# Altium footprint library CNC_shield_mkr1000_PcbLib.PcbLib: 7 footprints
Each footprint in its own frame and in the unit in brackets; x right, y up, seen from the top. Pads: shape width x height; smd on the part's side, far side on the other; paste and mask are expansions set on the pad; w line width, h text height; cw(c..) or ccw(c..) is an arc to the next point about the centre after c.
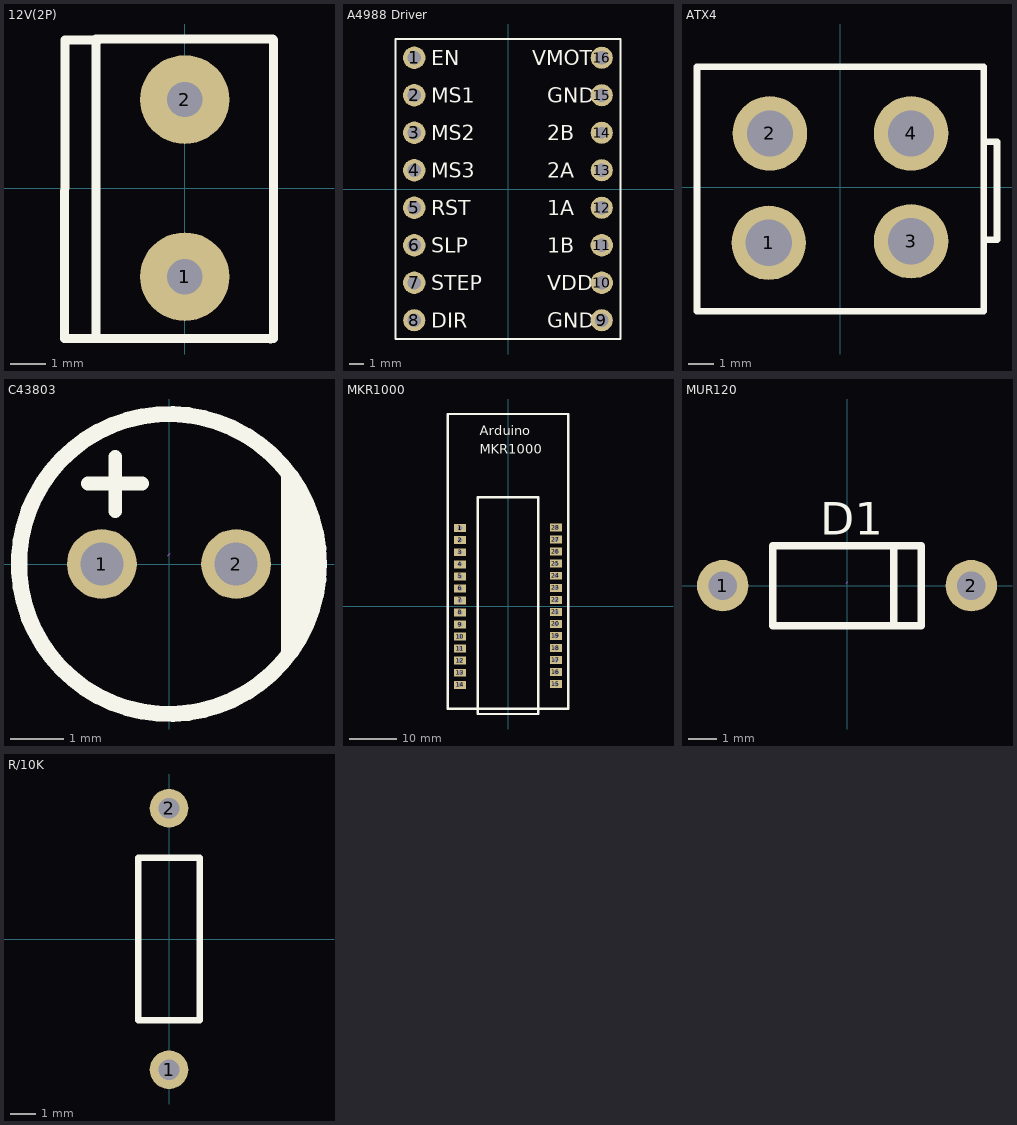
[diagram p0: the footprints below, top view; thin cyan lines are the x and y axes]

## 12V(2P) [mm] "Power plug"
pads (3):
  oval 2.52x2.5 hole 1: 1(0,-2.501) 1(0,-2.501) 2(0,2.501)
Top Overlay:
  lines w0.254: -2.49,4.179 -2.46,4.209 -2.41,4.209 -2.44,4.179 -3.38,4.179 -3.4,-4.251 -2.46,-4.251 ; 1.75,-4.251 2.42,-4.261 2.51,-4.241 2.51,4.18 2.479,4.21 -2.51,4.21 -2.51,-4.251 2.34,-4.251

## A4988 Driver [mil]
pads (16):
  round 60 hole 36: 1(-250,350) 2(-250,250) 3(-250,150) 4(-250,50) 5(-250,-50) 6(-250,-150) 7(-250,-250) 10(250,-250) 11(250,-150)
  round 59.05 hole 36: 8(-250,-350) 9(250,-350) 12(250,-50) 13(250,50) 15(250,250) 16(250,350)
  round 59.05 hole 31.5: 14(250,150)
Top Overlay:
  lines w5: -300,-400 -300,400 300,400 300,-400 -300,-400
  text "SLP" at -205,-170 h40
  text "RST" at -205,-70 h40
  text "EN" at -205,330 h40
  text "VMOT" at 65,330 h40
  text "GND" at 105,230 h40
  text "2B" at 105,130 h40
  text "2A" at 105,30 h40
  text "1A" at 105,-70 h40
  text "1B" at 105,-170 h40
  text "VDD" at 105,-270 h40
  text "GND" at 105,-370 h40
  text "DIR" at -205,-370 h40
  text "STEP" at -205,-270 h40
  text "MS3" at -205,30 h40
  text "MS2" at -205,130 h40
  text "MS1" at -205,230 h40

## ATX4 [mil]
pads (4):
  round 114.21 hole 70.79: 1(-110,-85) 2(-108.25,82.7) 3(108.25,-82.7) 4(108.25,82.7)
Top Overlay:
  lines w10: 220,70 240,70 240,-80 225,-80 ; -220,-190 220,-190 220,185 -220,185 -220,5 -220,-185 -220,-190

## C43803 [mm] "Polarized Capacitor with 16V 5*7"
pads (2):
  round 1.3 hole 0.8: 1(-1.25,0) 2(1.25,0)
Top Overlay:
  circle w0.3: c0,0 r2.794
  region: 2.088,1.651 2.255,1.491 2.519,1.111 2.701,0.685 2.794,0.231 2.794,-0.231 2.701,-0.685 2.519,-1.111 2.255,-1.491 2.088,-1.651
  lines w0.254: -1.516,1.5 -0.5,1.5 ; -1,0.984 -1,2
Mechanical 15:
  lines w0.003: -0.025,0.151 0.025,0.202

## MKR1000 [mil]
pads (30):
  rect 100x66 hole 40: 1(-397.5,647.5) 1(-397.5,647.5) 2(-397.5,547.5) 2(-397.5,547.5) 3(-397.5,447.5) 4(-397.5,347.5) 5(-397.5,247.5) 6(-397.5,147.5) 7(-397.5,47.5) 8(-397.5,-52.5) 9(-397.5,-152.5) 10(-397.5,-252.5) 11(-397.5,-352.5) 12(-397.5,-452.5) 13(-397.5,-552.5) 14(-397.5,-652.5) 15(397.5,-647.5) 16(397.5,-547.5) 17(397.5,-447.5) 18(397.5,-347.5) 19(397.5,-247.5) 20(397.5,-147.5) 21(397.5,-47.5) 22(397.5,52.5) 23(397.5,152.5) 24(397.5,252.5) 25(397.5,352.5) 26(397.5,452.5) 27(397.5,552.5) 28(397.5,652.5)
Top Overlay:
  lines w20: -135,1595 500,1595 500,155 ; -110,1595 -500,1595 -500,155 -500,-5 -500,-155 -500,-850 100,-850 ; -60,-850 100,-850 ; 500,160 500,0 500,-850 100,-850 ; -250,-895 0,-895 250,-895 250,5 250,190 250,905 -250,905 -250,5 -250,-895
  text "MKR1000" at -235,1265 h80
  text "Arduino" at -235,1420 h80

## MUR120 [mm] "MUR120_diode"
pads (2):
  round 1.8 hole 1: 1(-4.35,0) 2(4.35,0)
Top Overlay:
  lines w0.254: 1.641,-1.4 1.641,1.4 ; -2.6,-1.4 2.6,-1.4 2.6,1.4 -2.6,1.4 -2.6,-1.4
  text "D1" at -0.932,1.775 h1.14
Mechanical 15:
  lines w0.003: -0.025,0.088 0.025,0.138

## R/10K [mm]
pads (2):
  round 1.5 hole 0.8: 1(0,-5.08) 2(0,5.08)
Top Overlay:
  lines w0.254: -1.194,-3.15 1.194,-3.15 1.194,3.15 -1.194,3.15 -1.194,-3.15